# EAGLE library part HEADER_2X7 (library harrison)
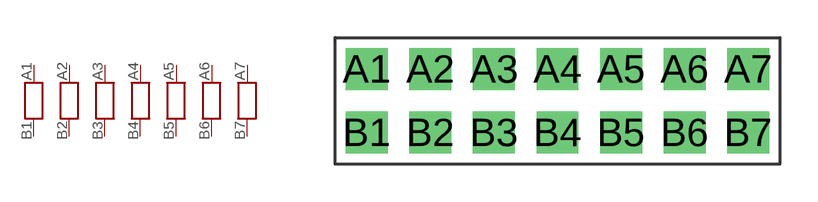
[diagram p89: symbol with the pads of HEADER_2X7; footprint HEADER_2X7]

Designator prefix S

## HEADER_2X7  [HEADER_2X7]
A1  A1  pas
A2  A2  pas
A3  A3  pas
A4  A4  pas
A5  A5  pas
A6  A6  pas
A7  A7  pas
B1  B1  pas
B2  B2  pas
B3  B3  pas
B4  B4  pas
B5  B5  pas
B6  B6  pas
B7  B7  pas

## Footprint HEADER_2X7 (pad centres in mm)
drill 0.813 pad 1.676 square: A1 -7.62,1.27; A2 -5.08,1.27; A3 -2.54,1.27; A4 0,1.27; A5 2.54,1.27; A6 5.08,1.27; A7 7.62,1.27; B1 -7.62,-1.27; B2 -5.08,-1.27; B3 -2.54,-1.27; B4 0,-1.27; B5 2.54,-1.27; B6 5.08,-1.27; B7 7.62,-1.27